# Altium footprint library TSSOP-24.PcbLib: 1 footprints
Each footprint in its own frame and in the unit in brackets; x right, y up, seen from the top. Pads: shape width x height; smd on the part's side, far side on the other; paste and mask are expansions set on the pad; w line width, h text height; cw(c..) or ccw(c..) is an arc to the next point about the centre after c.
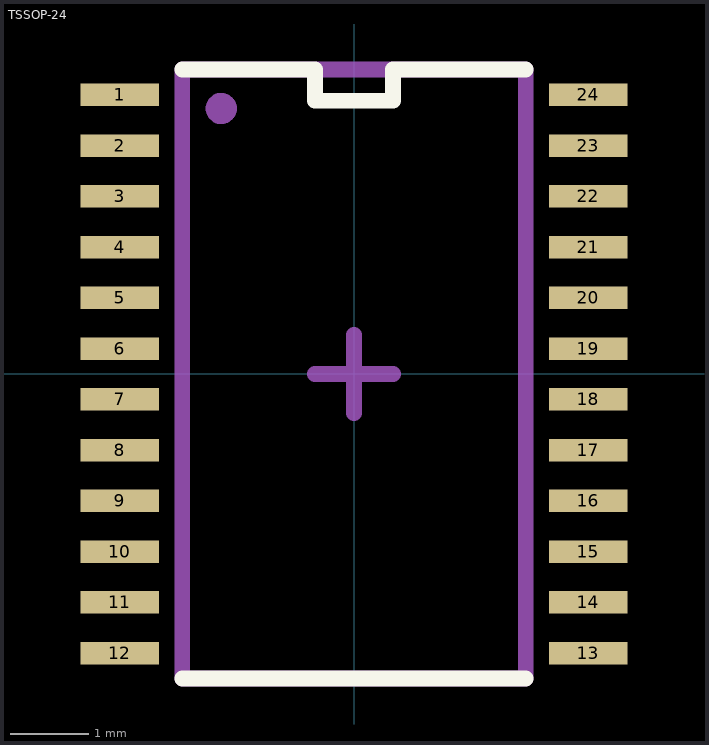
[diagram p0: the footprint, top view; thin cyan lines are the x and y axes]

## TSSOP-24 [mm] "TSSOP-24"
height 1.1
pads (24):
  rect 1x0.29 smd mask+0.05: 1(-3,3.575) 2(-3,2.925) 3(-3,2.275) 4(-3,1.625) 5(-3,0.975) 6(-3,0.325) 7(-3,-0.325) 8(-3,-0.975) 9(-3,-1.625) 10(-3,-2.275) 11(-3,-2.925) 12(-3,-3.575) 13(3,-3.575) 14(3,-2.925) 15(3,-2.275) 16(3,-1.625) 17(3,-0.975) 18(3,-0.325) 19(3,0.325) 20(3,0.975) 21(3,1.625) 22(3,2.275) 23(3,2.925) 24(3,3.575)
Top Overlay:
  lines w0.2: -2.2,-3.9 2.2,-3.9 ; -2.2,3.9 -0.5,3.9 -0.5,3.5 0.5,3.5 0.5,3.9 2.2,3.9
Top Assembly:
  circle w0.2: c-1.7,3.4 r0.1
  lines w0.2: -2.2,-3.9 -2.2,3.9 2.2,3.9 2.2,-3.9 -2.2,-3.9
Top Designator:
  text ".Designator" at -3.5,-5.218 h1.5
Top Component Center:
  lines w0.2: -0.5,0 0.5,0 ; 0,-0.5 0,0.5
3D body "TSSOP-24.step": height 1.2, standoff 0, extent -3.278,-3.95 3.278,3.95